# EAGLE library part ESP-201 (library esp8266modules)
ESP8266 Wifi Module ESP-201
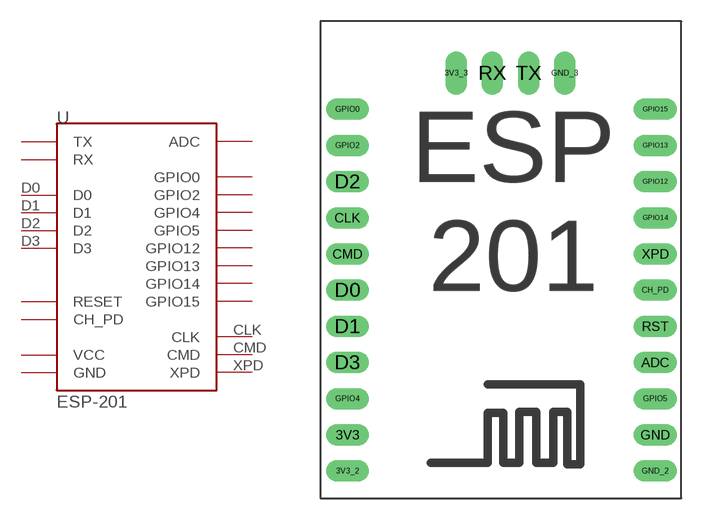
[diagram p14: symbol with the pads of ESP-201; footprint ESP-201]

Designator prefix -

## ESP-201 (DIMENSIONS: 25 x 35 mm; PINS: 26; PITCH: 0.1" / 2.54 mm)  [ESP-201]
3V3  VCC
3V3_2  VCC
3V3_3  VCC
ADC  ADC
CH_PD  CH_PD
CLK  CLK
CMD  CMD
D0  D0
D1  D1
D2  D2
D3  D3
GND  GND
GND_2  GND
GND_3  GND
GPIO0  GPIO0
GPIO2  GPIO2
GPIO4  GPIO4
GPIO5  GPIO5
GPIO12  GPIO12
GPIO13  GPIO13
GPIO14  GPIO14
GPIO15  GPIO15
RST  RESET
RX  RX
TX  TX
XPD  XPD

## Footprint ESP-201 (pad centres in mm)
ESP8266 Wifi Module ESP-201
drill 1.016 long: 3V3 0,2.54; 3V3_2 0,0; 3V3_3 7.62,27.94; ADC 21.59,7.62; CH_PD 21.59,12.7; CLK 0,17.78; CMD 0,15.24; D0 0,12.7; D1 0,10.16; D2 0,20.32; D3 0,7.62; GND 21.59,2.54; GND_2 21.59,0; GND_3 15.24,27.94; GPIO0 0,25.4; GPIO2 0,22.86; GPIO4 0,5.08; GPIO5 21.59,5.08; GPIO12 21.59,20.32; GPIO13 21.59,22.86; GPIO14 21.59,17.78; GPIO15 21.59,25.4; RST 21.59,10.16; RX 10.16,27.94; TX 12.7,27.94; XPD 21.59,15.24